# Altium footprint library STM32.PcbLib: 29 footprints (part 2 of 2)
Each footprint in its own frame and in the unit in brackets; x right, y up, seen from the top. Pads: shape width x height; smd on the part's side, far side on the other; paste and mask are expansions set on the pad; w line width, h text height; cw(c..) or ccw(c..) is an arc to the next point about the centre after c.
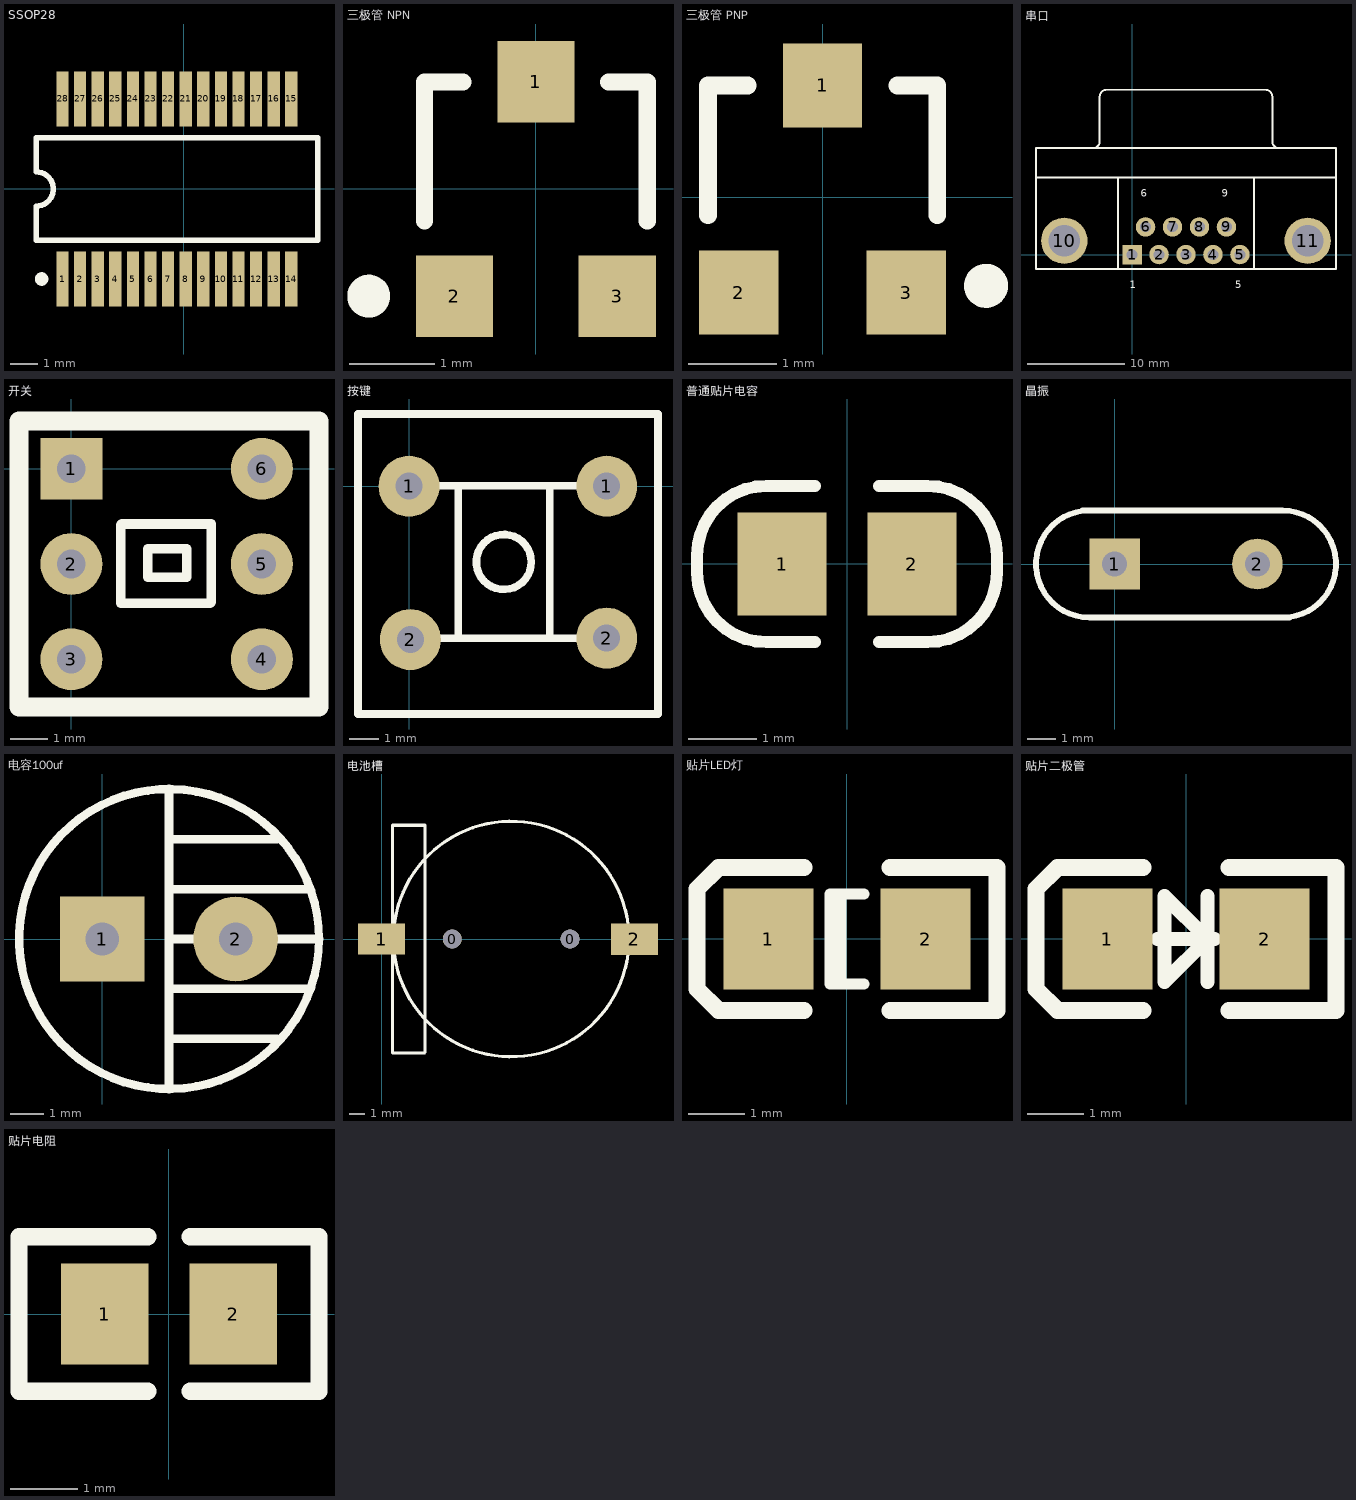
[diagram p1: the footprints below, top view; thin cyan lines are the x and y axes]

## SSOP28 [mm] "SP3238"
pads (28):
  rect 0.45x2.05 smd: 1(-4.479,-3.325) 2(-3.829,-3.325) 3(-3.179,-3.325) 4(-2.529,-3.325) 5(-1.879,-3.325) 6(-1.229,-3.325) 7(-0.579,-3.325) 8(0.071,-3.325) 9(0.721,-3.325) 10(1.371,-3.325) 11(2.021,-3.325) 12(2.671,-3.325) 13(3.321,-3.325) 14(3.971,-3.325) 15(3.971,3.325) 16(3.321,3.325) 17(2.671,3.325) 18(2.021,3.325) 19(1.371,3.325) 20(0.721,3.325) 21(0.071,3.325) 22(-0.579,3.325) 23(-1.229,3.325) 24(-1.879,3.325) 25(-2.529,3.325) 26(-3.179,3.325) 27(-3.829,3.325) 28(-4.479,3.325)
Top Overlay:
  circle w0.25: c-5.254,-3.325 r0.125
  lines w0.2: -5.454,-1.9 4.946,-1.9 4.946,1.9 -5.454,1.9 -5.454,0.633 cw(c-5.454,0) -5.454,-0.633 -5.454,-1.9

## 三极管 NPN [mm]
height 1.1
pads (3):
  rect 0.9x0.95 smd: 1(0,1.25) 2(-0.95,-1.25) 3(0.95,-1.25)
Top Overlay:
  circle w0.25: c-1.95,-1.25 r0.125
  lines w0.2: -1.3,-0.375 -1.3,1.25 -0.85,1.25 ; 0.85,1.25 1.3,1.25 1.3,-0.375

## 三极管 PNP [mm]
pads (3):
  rect 0.9x0.95 smd: 1(0,1.27) 2(-0.95,-1.08) 3(0.95,-1.08)
Top Overlay:
  circle w0.25: c1.855,-1.004 r0.125
  lines w0.2: -1.3,-0.205 -1.3,1.27 -0.85,1.27 ; 0.85,1.27 1.3,1.27 1.3,-0.205

## 串口 [mm]
pads (11):
  rect 2x2 hole 1.09: 1(0,0)
  round 2 hole 1.09: 2(2.77,0) 3(5.54,0) 4(8.31,0) 5(11.08,0) 6(1.385,2.84) 7(4.155,2.84) 8(6.925,2.84) 9(9.695,2.84)
  round 4.76 hole 3.26: 10(-6.955,1.42) 11(18.035,1.42)
Top Overlay:
  lines w0.2: -9.86,7.92 20.94,7.92 ; -4.02,10.925 ccw(c-4.02,11.62) -3.325,11.62 -3.325,16.22 ; -3.32,16.225 cw(c-2.625,16.225) -2.625,16.92 13.705,16.92 cw(c13.705,16.225) 14.4,16.225 ; -1.46,-1.48 -1.46,7.92 ; 12.54,-1.48 12.54,7.92 ; 14.405,16.22 14.405,11.62 ccw(c15.1,11.62) 15.1,10.925 ; -9.86,-1.48 -9.86,10.92 20.94,10.92 20.94,-1.48 -9.86,-1.48
  text "1" at -0.25,-3.455 h0.76
  text "5" at 10.58,-3.455 h0.76
  text "9" at 9.195,5.945 h0.76
  text "6" at 0.885,5.945 h0.76

## 开关 [mil]
pads (6):
  rect 65x65 hole 30: 1(0,0)
  round 65 hole 30: 2(0,-100) 3(0,-200) 4(200,-200) 5(200,-100) 6(200,0)
Top Overlay:
  lines w10: 52,-59 52,-141 146,-141 147,-140 147,-58 ; 53,-58 147,-58 ; 146,-59 147,-58 ; 80,-114 80,-84 121,-84 121,-114 80,-114
  lines w20: 230,-250 260,-250 260,50 245,50 -55,50 -55,-250 245,-250

## 按键 [mil]
pads (4):
  round 80 hole 35.43: 1(0,0) 1(259.47,0) 2(1.76,-201.22) 2(259.47,-199.45)
Top Overlay:
  circle w10: c124.43,-99.41 r36.06
  lines w10: 19.43,-199.41 234.43,-199.41 ; 19.43,0.59 240.57,0.59 241.03,1.05 ; 64.43,-199.41 64.43,0.59 ; 184.43,-199.41 184.43,0.59 ; -66.97,-298.95 -66.97,94.76 326.73,94.76 326.73,-298.95 -66.97,-298.95

## 普通贴片电容 [mm]
height 1.1
pads (2):
  rect 1.3x1.5 smd: 1(-0.95,0) 2(0.95,0)
Top Overlay:
  lines w0.178: -0.467,-1.143 -1.179,-1.143 cw(c-1.179,-0.127) -2.195,-0.127 -2.195,0.127 cw(c-1.179,0.127) -1.179,1.143 -0.467,1.143 ; 0.467,-1.143 1.179,-1.143 ccw(c1.179,-0.127) 2.195,-0.127 2.195,0.127 ccw(c1.179,0.127) 1.179,1.143 0.467,1.143

## 晶振 [mm]
pads (2):
  rect 1.8x1.8 hole 0.9: 1(0,0)
  round 1.8 hole 0.9: 2(5.08,0)
Top Overlay:
  lines w0.203: -1.143,1.905 5.969,1.905 cw(c5.969,0) 5.969,-1.905 ; -0.889,1.905 ccw(c-0.889,0) -0.889,-1.905 6.223,-1.905

## 电容100uf [mm]
pads (2):
  rect 2.54x2.54 hole 1: 1(0,0)
  round 2.54 hole 1: 2(4,0)
Top Overlay:
  circle w0.254: c2,0 r4.5
  lines w0.255: 2,-4.5 2,4.5 ; 2,-3 5.25,-3 ; 2,-1.5 6.25,-1.5 ; 2,0 6.5,0 ; 2,1.5 6.2,1.5 ; 2,3 5.25,3

## 电池槽 [mm]
height 10
pads (4):
  round 1.2 hole 1.2: 0(4.505,0) 0(12.005,0)
  rect 3x2 smd: 1(0,0) 2(16.104,-0.025)
Top Overlay:
  circle w0.203: c8.255,0 r7.5
  lines w0.203: 0.705,-7.264 0.705,7.239 2.769,7.239 2.769,-7.214 2.718,-7.264 0.705,-7.264

## 贴片LED灯 [mm]
height 1.35
pads (2):
  rect 1.6x1.8 smd: 1(-1.4,0) 2(1.4,0)
Top Overlay:
  lines w0.2: -0.11,-0.8 -0.11,0.8 ; 0.3,-0.8 -0.3,-0.8 -0.3,0.8 0.3,0.8
  lines w0.305: -0.765,-1.27 -2.289,-1.27 -2.67,-0.889 -2.67,0.889 -2.289,1.27 -0.765,1.27 ; 0.765,-1.27 2.67,-1.27 2.67,1.27 0.765,1.27

## 贴片二极管 [mm]
height 2.54
pads (2):
  rect 1.6x1.8 smd: 1(-1.4,0) 2(1.4,0)
Top Overlay:
  lines w0.254: -0.508,0 0.508,0 ; 0.381,-0.762 0.381,0.762 ; -0.381,-0.762 -0.381,0.762 0.381,0 -0.381,-0.762
  lines w0.305: -0.765,-1.27 -2.289,-1.27 -2.67,-0.889 -2.67,0.889 -2.289,1.27 -0.765,1.27 ; 0.765,-1.27 2.67,-1.27 2.67,1.27 0.765,1.27

## 贴片电阻 [mm]
height 0.65
pads (2):
  rect 1.3x1.5 smd: 1(-0.95,0) 2(0.95,0)
Top Overlay:
  lines w0.254: -0.315,-1.143 -2.22,-1.143 -2.22,1.143 -0.315,1.143 ; 0.315,-1.143 2.22,-1.143 2.22,1.143 0.315,1.143